# Altium schematic symbol library 2SD2114K.Schlib: 1 symbol
Pins are listed as number, name and electrical type; pins without a type are passive.

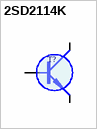
[diagram p0: symbol 2SD2114K]

## 2SD2114K
designator T?
SOT23     20V 0.5A 350MHz    8p (10V)
pins: 1 B, 2 E (oe), 3 C (oc)
1 alternate drawing of the same symbol